# Altium schematic symbol library ESQ-126-39-G-D-001.SchLib: 1 symbol
Pins are listed as number, name and electrical type; pins without a type are passive.

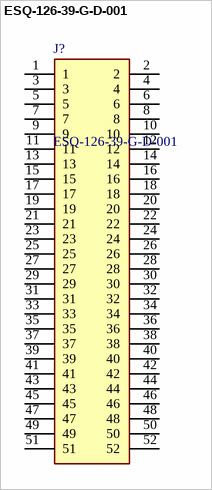
[diagram p0: symbol ESQ-126-39-G-D-001]

## ESQ-126-39-G-D-001
designator J?
PC / 104 Connectors Elevated Socket Strip, 0.100 Pitch; Manufacturer_Name: SAMTEC; Geometry.Height: 11.35mm; Manufacturer_Part_Number: ESQ-126-39-G-D-001; Mouser Part Number: 200-ESQ12639GD001; Mouser Price/Stock: https://www.mouser.co.uk/ProductDetail/Samtec/ESQ-126-39-G-D-001?qs=PB6%2FjmICvI2K%2FCIgL4SVbg%3D%3D; Arrow Part Number: ESQ-126-39-G-D-001; Arrow Price/Stock: https://www.arrow.com/en/products/esq-126-39-g-d-001/samtec?region=nac; Datasheet Link: http://suddendocs.samtec.com/catalog_english/esq_th.pdf
footprint RHDR52W64P254_2X26_6654X495X1135P
pins: 1, 2, 3, 4, 5, 6, 7, 8, 9, 10, 11, 12, 13, 14, 15, 16, 17, 18, 19, 20, 21, 22, 23, 24, 25, 26, 27, 28, 29, 30, 31, 32, 33, 34, 35, 36, 37, 38, 39, 40, 41, 42, 43, 44, 45, 46, 47, 48, 49, 50, 51, 52